# Altium footprint library Battery.PcbLib: 7 footprints
Each footprint in its own frame and in the unit in brackets; x right, y up, seen from the top. Pads: shape width x height; smd on the part's side, far side on the other; paste and mask are expansions set on the pad; w line width, h text height; cw(c..) or ccw(c..) is an arc to the next point about the centre after c.
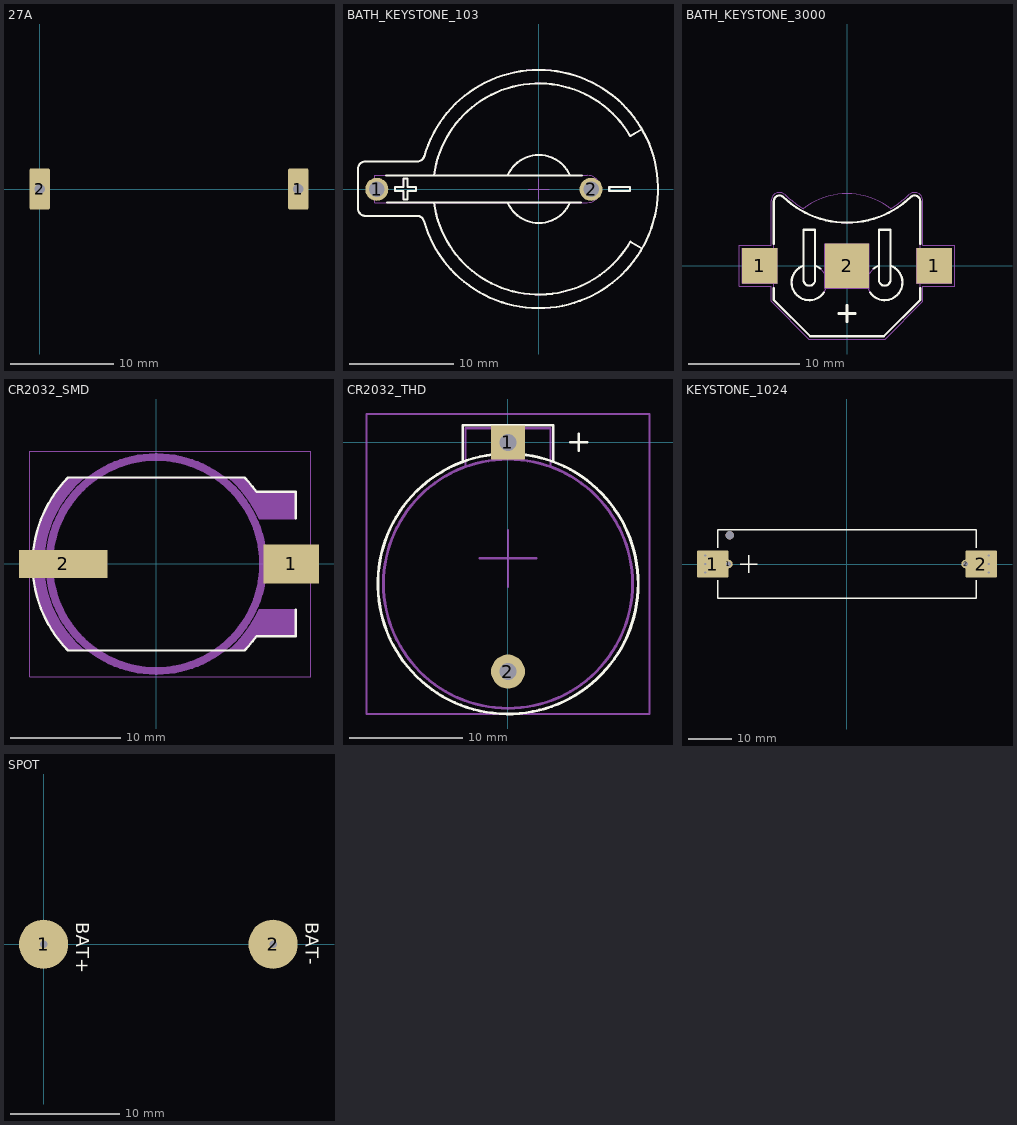
[diagram p0: the footprints below, top view; thin cyan lines are the x and y axes]

## 27A [mm]
pads (2):
  rrect20% 2x4 hole 1 square: 1(25,0) 2(0,0)

## BATH_KEYSTONE_103 [mm] "Battery Holder for 20mm Lithium Coin Cells"
height 8.5
pads (2):
  round 2.2 hole 1.5: 1(-15.5,-0.031) 2(5,-0.031)
Top Overlay:
  lines w0.2: -14.615,1.302 4.115,1.302 ; -14.528,-1.302 4.028,-1.302 ; -10.016,-1.302 ccw(c0,0) 8.751,-5.043 9.877,-5.692 ; -10.016,1.302 cw(c0,0) 8.738,5.065 9.863,5.717 ; -2.985,-1.302 ccw(c0,0) 2.985,-1.302 ; -2.985,1.302 cw(c0,0) 2.985,1.302 ; -11.763,-0.2 -11.763,0.2 ; -11.763,-0.2 -12.563,-0.2 -12.563,-1 -12.963,-1 -12.963,-0.2 -13.763,-0.2 -13.763,0.2 -12.963,0.2 -12.963,1 -12.563,1 -12.563,0.2 -11.763,0.2 ; -11.763,-0.2 -11.763,0.2 ; 8.737,-0.2 8.737,0.2 ; 8.737,-0.2 6.737,-0.2 6.737,0.2 8.737,0.2 ; 8.737,-0.2 8.737,0.2 ; -17.3,-1.872 ccw(c-16.6,-1.872) -16.6,-2.572 -11.649,-2.572 cw(c-11.649,-3.272) -10.975,-3.083 ccw(c0,0) -10.958,3.143 cw(c-11.631,3.336) -11.631,2.636 -16.6,2.636 ccw(c-16.6,1.936) -17.3,1.936 -17.3,-1.872
Mechanical 8:
  lines w0.1: -16.5,-0.031 -15.5,-0.031 ; -15.5,-1.031 -15.5,-0.031 ; -15.5,0.969 -15.5,-0.031 ; -14.5,-0.031 -15.5,-0.031 ; -1,0 0,0 ; 0,-1 0,0 ; 0,1 0,0 ; 1,0 0,0 ; 4,-0.031 5,-0.031 ; 5,-1.031 5,-0.031 ; 5,0.969 5,-0.031 ; 6,-0.031 5,-0.031
Mechanical 14:
  lines w0.1: -10.016,-1.302 ccw(c0,0) 8.751,-5.043 9.877,-5.692 ; -10.016,1.302 cw(c0,0) 8.738,5.065 9.863,5.717 ; -2.985,-1.302 ccw(c0,0) 2.985,-1.302 ; -2.985,1.302 cw(c0,0) 2.985,1.302 ; -11.763,-0.2 -11.763,0.2 ; -11.763,-0.2 -12.563,-0.2 -12.563,-1 -12.963,-1 -12.963,-0.2 -13.763,-0.2 -13.763,0.2 -12.963,0.2 -12.963,1 -12.563,1 -12.563,0.2 -11.763,0.2 ; -11.763,-0.2 -11.763,0.2 ; 8.737,-0.2 8.737,0.2 ; 8.737,-0.2 6.737,-0.2 6.737,0.2 8.737,0.2 ; 8.737,-0.2 8.737,0.2 ; -17.3,-1.872 ccw(c-16.6,-1.872) -16.6,-2.572 -11.649,-2.572 cw(c-11.649,-3.272) -10.975,-3.083 ccw(c0,0) -10.958,3.143 cw(c-11.631,3.336) -11.631,2.636 -16.6,2.636 ccw(c-16.6,1.936) -17.3,1.936 -17.3,-1.872 ; -15.7,-1.302 -15.7,1.302 4.636,1.302 cw(c4.636,0) 4.636,-1.302 -15.7,-1.302
3D body "BATH_KEYSTONE_103.stp": height 8.5, standoff -4.8, extent -17.3,-11.391 11.4,11.388

## BATH_KEYSTONE_3000 [mm] "SMD Battery Holder for BR1216, CR1216, BR1220, CL1220, CR1220, BR1225 Coin Cells"
height 3.175
pads (3):
  rect 3.175x3.175 smd: 1(-7.873,0) 1(7.873,0)
  rect 4x4 smd paste-2: 2(0,0)
Top Overlay:
  lines w0.2: -6.6,-1.988 -6.6,-3.075 -3.325,-6.35 3.325,-6.35 6.6,-3.075 6.6,-1.988 ; -6.6,1.988 -6.6,5.85 cw(c-6.098,5.848) -5.75,6.21 ccw(c0,12.175) 5.75,6.21 cw(c6.099,5.849) 6.6,5.85 6.6,1.988 ; -3.921,-1.335 -3.921,3.255 ; -3.921,-1.335 ccw(c-3.4,-1.263) -2.879,-1.335 -2.879,3.255 ; -2.077,-2.4 cw(c-3.4,-1.5) -3.921,0.013 -3.921,3.255 ; 3.921,-1.335 cw(c3.4,-1.263) 2.879,-1.335 2.879,3.255 ; 3.921,-1.335 3.921,3.255 2.879,3.255 ; -3.921,3.255 -2.879,3.255 ; -3.921,3.255 -2.879,3.255 ; -2.879,0.013 cw(c-3.4,-1.5) -2.4,-0.251 ccw(c-3.4,-1.5) -2.879,0.013 ; -2.879,0.013 -2.879,3.255 ; 2.879,0.013 ccw(c3.4,-1.5) 2.4,-0.251 cw(c3.4,-1.5) 2.879,0.013 ; 2.879,0.013 2.879,3.255 ; 2.879,3.255 3.921,3.255 3.921,0.013 ; 3.921,0.013 cw(c3.4,-1.5) 2.077,-2.4 ccw(c3.4,-1.5) 3.921,0.013 ; -0.75,-4.322 -0.025,-4.322 -0.025,-5.047 0.025,-5.047 0.025,-4.322 0.75,-4.322 0.75,-4.272 0.025,-4.272 0.025,-3.547 -0.025,-3.547 -0.025,-4.272 -0.75,-4.272 -0.75,-4.322
Mechanical 8:
  lines w0.1: -8.373,0 -7.873,0 ; -7.873,-0.5 -7.873,0 ; -7.873,0.5 -7.873,0 ; -7.373,0 -7.873,0 ; -0.5,0 0,0 ; 0,-0.5 0,0 ; 0,0.5 0,0 ; 0.5,0 0,0 ; 7.373,0 7.873,0 ; 7.873,-0.5 7.873,0 ; 7.873,0.5 7.873,0 ; 8.373,0 7.873,0 ; -9.46,-1.587 -9.46,1.587 -6.285,1.587 -6.285,-1.587 -9.46,-1.587 ; -2,-2 -2,2 2,2 2,-2 -2,-2 ; 6.285,-1.587 6.285,1.587 9.46,1.587 9.46,-1.587 6.285,-1.587
Mechanical 14:
  circle w0.1: c8.03,-0.001 r0.6
  circle w0.1: c-8.03,-0.001 r0.6
  lines w0.1: -6.6,-1.59 -9.46,-1.59 -9.46,1.59 -6.6,1.59 ; -3.921,-1.335 -3.921,3.255 ; -3.921,-1.335 ccw(c-3.4,-1.263) -2.879,-1.335 -2.879,3.255 ; 3.921,-1.335 cw(c3.4,-1.263) 2.879,-1.335 2.879,3.255 ; 3.921,-1.335 3.921,3.255 2.879,3.255 ; 6.6,-1.59 9.46,-1.59 9.46,1.59 6.6,1.59 ; -3.921,0.013 ccw(c-3.4,-1.5) -2.879,0.013 ; -3.921,0.013 ccw(c-3.4,-1.5) -2.879,0.013 ; -3.921,0.013 -3.921,3.255 ; -3.921,3.255 -2.879,3.255 ; -3.921,3.255 -2.879,3.255 ; -2.879,0.013 -2.879,3.255 ; 2.879,0.013 ccw(c3.4,-1.5) 3.921,0.013 ; 2.879,0.013 ccw(c3.4,-1.5) 3.921,0.013 ; 2.879,0.013 2.879,3.255 ; 2.879,3.255 3.921,3.255 3.921,0.013 ; -6.6,-3.075 -6.6,5.85 cw(c-6.098,5.848) -5.75,6.21 ccw(c0,12.175) 5.75,6.21 cw(c6.099,5.849) 6.6,5.85 6.6,-3.075 3.325,-6.35 -3.325,-6.35 -6.6,-3.075 ; -0.75,-4.322 -0.025,-4.322 -0.025,-5.047 0.025,-5.047 0.025,-4.322 0.75,-4.322 0.75,-4.272 0.025,-4.272 0.025,-3.547 -0.025,-3.547 -0.025,-4.272 -0.75,-4.272 -0.75,-4.322
Mechanical 15:
  lines w0.05: -6.85,5.85 -6.85,1.84 -9.71,1.84 -9.71,-1.84 -6.85,-1.84 -6.85,-3.179 -3.429,-6.6 3.429,-6.6 6.85,-3.179 6.85,-1.84 9.71,-1.84 9.71,1.84 6.85,1.84 6.85,5.85 ; -6.85,5.851 cw(c-6.098,5.848) -5.577,6.39 ; -5.577,6.39 ccw(c0,12.175) -3.938,5.171 cw(c0,0) 3.938,5.171 ccw(c0,12.175) 5.577,6.39 cw(c6.099,5.849) 6.85,5.85
3D body "BATH_KEYSTONE_3000.stp": height 3.17, standoff 0, extent -9.46,-6.35 9.46,6.351

## CR2032_SMD [mil]
pads (2):
  rect 196.85x140 smd: 1(480,0)
  rect 314.96x100 smd: 2(-330,0)
Top Overlay:
  lines w8: 495.61,-161.42 495.61,-256.94 355.95,-256.94 cw(c0,0) 313.76,-307.01 -313.76,-307.01 cw(c0,0) -313.76,307.01 313.76,307.01 cw(c0,0) 355.92,256.94 495.61,256.94 495.61,161.42
Mechanical 13:
  circle w28: c0,0 r380
  region: 365.54,161.44 360.75,171.88 350.28,192.33 338.65,212.14 325.9,231.25 312.07,249.6 297.21,267.12 281.37,283.76 264.59,299.46 255.88,306.94 255.88,306.87 313.76,306.87 313.76,307.01 319.49,301.16 330.5,289.03 341.05,276.5 351.13,263.58 355.92,256.94 495.61,256.94 495.61,161.42
  region: -313.76,-307.01 -325.66,-294.85 -347.49,-268.77 -367.25,-241.08 -384.8,-211.94 -400.05,-181.53 -412.89,-150.03 -423.26,-117.64 -431.1,-84.53 -436.34,-50.92 -438.98,-17.01 -438.98,17.01 -436.34,50.92 -431.1,84.53 -423.26,117.64 -412.89,150.03 -400.05,181.53 -384.8,211.94 -367.25,241.08 -347.49,268.77 -325.65,294.85 -313.76,307.01 -255.88,307.01 -255.88,306.94 -269.07,295.44 -293.88,270.77 -316.44,244.03 -336.58,215.41 -354.13,185.14 -368.97,153.46 -380.98,120.59 -390.06,86.8 -396.16,52.35 -399.22,17.49 -399.22,-17.49 -396.16,-52.35 -390.06,-86.8 -380.98,-120.59 -368.97,-153.46 -354.13,-185.14 -336.58,-215.41 -316.44,-244.03 -293.88,-270.77 -269.07,-295.44 -255.88,-306.94 -255.88,-307.01
  region: 313.76,-307.01 319.49,-301.15 330.5,-289.02 341.06,-276.49 351.14,-263.57 355.93,-256.93 355.95,-256.94 495.61,-256.94 495.61,-161.42 365.54,-161.42 365.54,-161.44 360.75,-171.88 350.28,-192.33 338.65,-212.14 325.9,-231.25 312.07,-249.6 297.21,-267.12 281.37,-283.76 264.59,-299.46 255.88,-306.94 255.88,-307.01
  lines w2: -255.88,-306.94 cw(c0,0) -255.88,306.94 ; 255.88,-306.94 ccw(c0,0) 365.54,-161.44 ; 255.88,306.87 313.76,306.87 ; 255.88,306.94 cw(c0,0) 365.54,161.44 ; 255.88,307.01 -313.76,307.01 ccw(c0,0) -313.76,-307.01 255.88,-307.01 313.76,-307.01 ccw(c0,0) 355.93,-256.93 495.61,-256.94 495.61,-161.42 365.54,-161.42 ; 313.76,307.01 cw(c0,0) 355.92,256.94 495.61,256.94 495.61,161.42 365.5,161.42
Mechanical 14:
  lines w2: -450,-400 550,-400 550,400 -450,400 -450,-400
3D body "60488.stp": height 212.6, standoff 0, extent -438.98,-306.98 531.5,307

## CR2032_THD [mm]
pads (2):
  rect 3x3 hole 1.5: 1(0,0)
  round 3 hole 1.5: 2(0,-20.25)
Top Overlay:
  circle w0.254: c0,-12.5 r11.5
  lines w0.2: -4,-1.75 -4,1.5 4,1.5 4,-1.25 4,-1.75 ; 5.5,0 7,0 ; 6.25,-0.75 6.25,0.75
Mechanical 13:
  circle w0.254: c0,-12.5 r11
  lines w0.2: -3.75,-2 -3.75,1.25 3.75,1.25 3.75,-2
  text ".Designator" at -3,-12.25 h1.8
Mechanical 15:
  lines w0.2: -2.5,-10.25 2.5,-10.25 ; 0,-12.75 0,-7.75 ; -12.5,-24 12.5,-24 12.5,2.5 -12.5,2.5 -12.5,-24
3D body "User Library-CR2032_HOR_HOLD.step": height 8.5, standoff -4, extent -11,-23.5 11,1

## KEYSTONE_1024 [mm] "AA battery holder"
pads (10):
  round 1 hole 0.5: 1(-33,-2) 1(-33,0) 1(-33,2) 2(33,-2) 2(33,0) 2(33,2)
  rrect10% 7.35x6.35 smd: 1(-31.25,0) 2(31.25,0)
  round 2 hole 1.2: 1(-27.6,0) 2(27.6,0)
via -27.275,6.73 diameter 2 hole 2
Top Overlay:
  lines w0.3: -30.1,-3.75 -30.1,-8 30.15,-8 30.15,-3.75 ; -30.1,3.75 -30.1,8 30.15,8 30.15,3.75 ; -24.85,0 -20.85,0 ; -22.85,-2 -22.85,2
3D body "keystone-PN1024.STEP": height 14.81, standoff -1.62, extent -34.45,-7.772 34.409,7.772

## SPOT [mm]
pads (2):
  round 4.5 hole 0.7: 1(0,0) 2(21,0)
Top Overlay:
  text "BAT-" at 24,2 h1.2
  text "BAT+" at 3,2 h1.2